# Altium integrated library TSW-118-07-G-D-LL.IntLib: 1 symbol
Pins are listed as number, name and electrical type; pins without a type are passive.

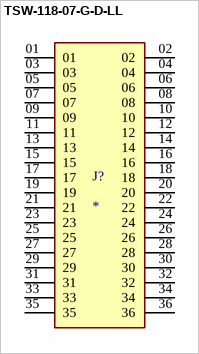
[diagram p0: symbol TSW-118-07-G-D-LL]

## TSW-118-07-G-D-LL
designator J?
MP: TSW-118-07-G-D-LL; Package: None; Price: None; Value: *; Availability: Unavailable
footprint SAMTEC_TSW-118-07-G-D-LL
pins: 01, 02, 03, 04, 05, 06, 07, 08, 09, 10, 11, 12, 13, 14, 15, 16, 17, 18, 19, 20, 21, 22, 23, 24, 25, 26, 27, 28, 29, 30, 31, 32, 33, 34, 35, 36